# Altium schematic symbol library Schlib_Diodes_Incorporated.SchLib: 11 symbols
Pins are listed as number, name and electrical type; pins without a type are passive.

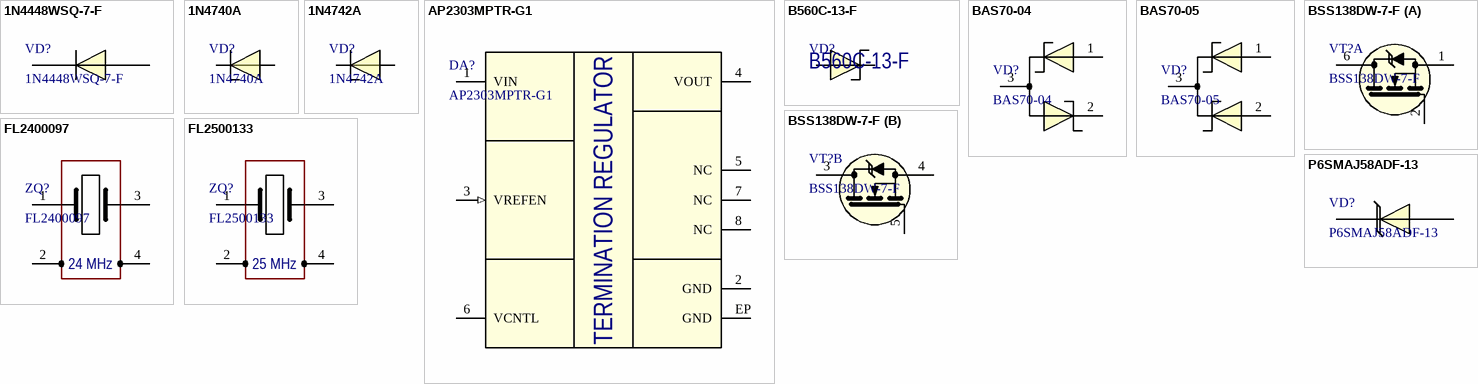
[diagram p0: symbols 1N4448WSQ-7-F to P6SMAJ58ADF-13]

## 1N4448WSQ-7-F
designator VD?
Fast switching diode 75V, 200 mA; Manufacturer: Diodes Incorporated; Part Number: 1N4448WSQ-7-F; Package: SOD-323
footprint SOD-323
pins: 1 CATHODE, 2 ANODE (power)

## 1N4740A
designator VD?
10V 1.0W ZENER DIODE; Manufacturer: Diodes Incorporated; Part Number: 1N4740A; Package: DO-41
footprint DO-41 GLASS DARK RED
footprint DO-41 GLASS DARK RED (VERTICAL)
pins: 1 CATHODE, 2 ANODE (power)

## 1N4742A
designator VD?
12V 1.0W ZENER DIODE; Manufacturer: Diodes Incorporated; Part Number: 1N4742A; Package: DO-41
footprint DO-41 GLASS DARK RED
footprint DO-41 GLASS DARK RED (VERTICAL)
pins: 1 CATHODE, 2 ANODE (power)

## AP2303MPTR-G1
designator DA?
DDR BUS TERMINATION REGULATOR; Manufacturer: Diodes Incorporated; Part Number: AP2303MPTR-G1; Package: SOIC-8EP
footprint SOIC-8EP (SOIC-8 package with exponsed pad)
pins: 1 VIN (power), 2 GND (power), 3 VREFEN (in), 4 VOUT (power), 5 NC (hiz), 6 VCNTL (power), 7 NC (hiz), 8 NC (hiz), EP GND (power)
text: TERMINATION REGULATOR

## B560C-13-F
designator VD?
Diode Schottky 60V, 5A; Manufacturer: Diodes Incorporated; Package: SMC/DO-214AB; Part Number: B560C-13-F
footprint DO-214AB (Molded Diode, 2-Leads, Body 6.9x5.8mm)
pins: 1 A, 2 C

## BAS70-04
designator VD?
Small Signal Schottky Diodes; Manufacturer: Diodes Incorporated; Part Number: BAS70-04; Package: SOT23-3
footprint SOT23-3 (SOT23, 6-Leads, Body 2.90x2.80mm, Pitch 0.95mm, IPC Medium Density)
pins: 1 A1, 2 C, 3 A2

## BAS70-05
designator VD?
Small Signal Schottky Diodes; Manufacturer: Diodes Incorporated; Part Number: BAS70-05; Package: SOT23-3
footprint SOT23-3 (SOT23, 6-Leads, Body 2.90x2.80mm, Pitch 0.95mm, IPC Medium Density)
pins: 1 A1, 2 C, 3 A2

## BSS138DW-7-F
designator VT?
Dual N-Channel MOSFET, 50V, 0.2A; Manufacturer: Diodes Incorporated; Part Number: BSS138DW-7-F; Package: SC70-6
footprint SC70-6
part A pins: 1 S1, 2 G1, 6 D1
part B pins: 3 D2, 4 S2, 5 G2

## FL2400097
designator ZQ?
24 MHz crystal resonator ±15ppm; Manufacturer: Diodes Incorporated; Load Capacitance: 9pF; Equivalent Series Resistance: 50 Ohm; Part Number: FL2400097; Package: SMD3225 (3.20mm x 2.50mm)
footprint SMD3225
pins: 1 XTAL0, 2 GND (power), 3 XTAL1, 4 GND (power)
text: 24 MHz

## FL2500133
designator ZQ?
25 MHz crystal resonator ±15ppm; Manufacturer: Diodes Incorporated; Load Capacitance: 18pF; Equivalent Series Resistance: 40 Ohm; Part Number: FL2500133; Package: SMD3225 (3.20mm x 2.50mm)
footprint SMD3225
pins: 1 XTAL0, 2 GND (power), 3 XTAL1, 4 GND (power)
text: 25 MHz

## P6SMAJ58ADF-13
designator VD?
Transient voltage suppressor (600W); Manufacturer: Diodes Incorporated; Part Number: P6SMAJ58ADF-13; Package: D-Flat (5.6 x 2.95 mm)
footprint D-FLAT
pins: 1 CATHODE, 2 ANODE (power)